# Altium footprint library SOT723.PcbLib: 1 footprints
Each footprint in its own frame and in the unit in brackets; x right, y up, seen from the top. Pads: shape width x height; smd on the part's side, far side on the other; paste and mask are expansions set on the pad; w line width, h text height; cw(c..) or ccw(c..) is an arc to the next point about the centre after c.
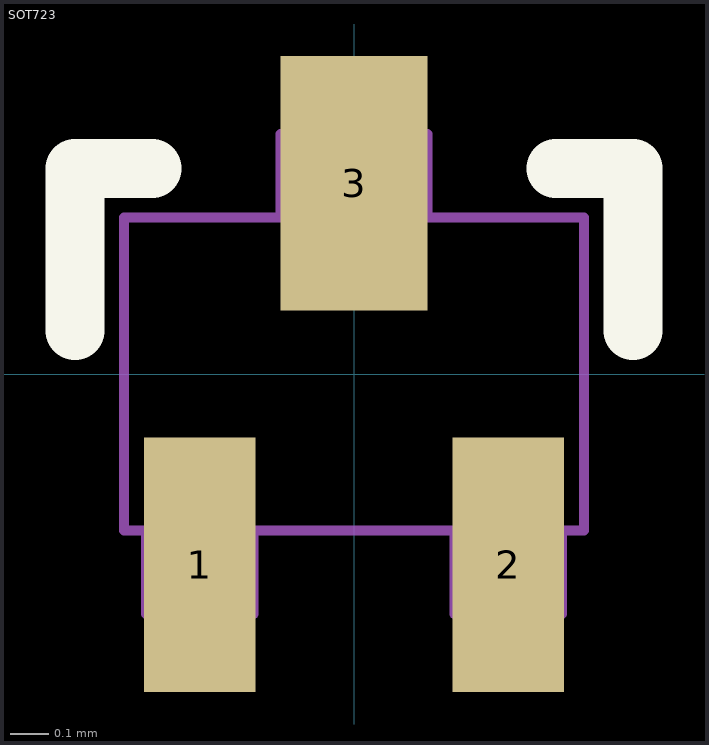
[diagram p0: the footprint, top view; thin cyan lines are the x and y axes]

## SOT723 [mil]
pads (3):
  rect 11.42x26 smd paste+0 mask+0: 1(-15.75,-19.5) 2(15.75,-19.5)
  rect 15x26 smd paste+0 mask+0: 3(0,19.5)
Top Overlay:
  lines w6: -28.5,4.41 -28.5,21 -20.6,21 ; 20.6,21 28.5,21 28.5,4.41
Mechanical 13:
  lines w1: -23.5,-16 23.5,-16 23.5,16 -23.5,16 -23.5,-16 ; -21.25,-24.5 -21.25,-16 -10.25,-16 -10.25,-24.5 -21.25,-24.5 ; -7.5,16 7.5,16 7.5,24.5 -7.5,24.5 -7.5,16 ; 10.25,-24.5 10.25,-16 21.25,-16 21.25,-24.5 10.25,-24.5
3D body "VESM_TOS.step": height 24.09, standoff 0, extent -23.5,-15.98 23.5,15.98